# EAGLE library part IC_KSZ8851SNL (library dp_devices)
Fast Ethernet Controller with PHY, MAC and SPI
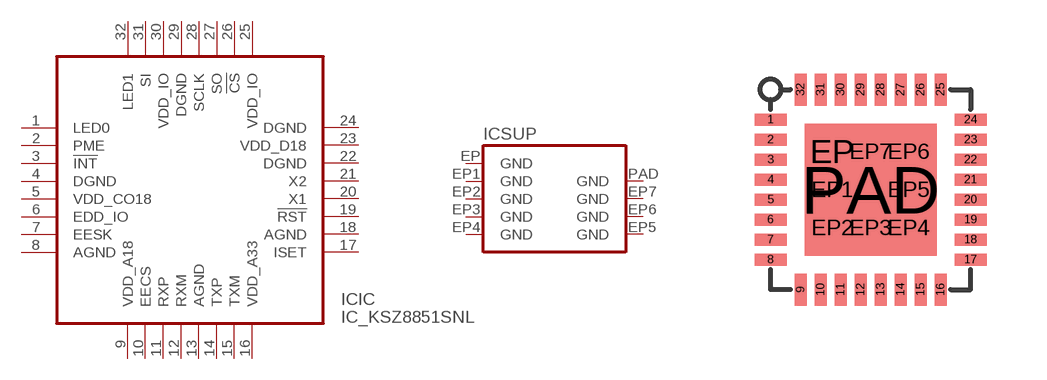
[diagram p104: symbol with the pads of QFN32_5X5; footprint QFN32_5X5]

Designator prefix IC; gates IC=IC_KSZ8851SNL SUP=QFN25_GND

## IC_KSZ8851SNL  [QFN32_5X5]
1  IC:LED0
2  IC:PME
3  IC:!INT
4  IC:DGND  sup
5  IC:VDD_CO18
6  IC:EDD_IO
7  IC:EESK
8  IC:AGND
9  IC:VDD_A18
10  IC:EECS
11  IC:RXP
12  IC:RXM
13  IC:AGND
14  IC:TXP
15  IC:TXM
16  IC:VDD_A33
17  IC:ISET
18  IC:AGND  sup
19  IC:!RST
20  IC:X1
21  IC:X2
22  IC:DGND
23  IC:VDD_D18  sup
24  IC:DGND
25  IC:VDD_IO
26  IC:!CS
27  IC:SO
28  IC:SCLK
29  IC:DGND
30  IC:VDD_IO
31  IC:SI
32  IC:LED1
EP  SUP:GND  sup
EP1  SUP:GND  sup
EP2  SUP:GND  sup
EP3  SUP:GND  sup
EP4  SUP:GND  sup
EP5  SUP:GND  sup
EP6  SUP:GND  sup
EP7  SUP:GND  sup
PAD  SUP:GND  sup

## Footprint QFN32_5X5 (pad centres in mm)
smd 0.8 x 0.3: 1 -2.5,1.75; 2 -2.5,1.25; 3 -2.5,0.75; 4 -2.5,0.25; 5 -2.5,-0.25; 6 -2.5,-0.75; 7 -2.5,-1.25; 8 -2.5,-1.75; 17 2.5,-1.75; 18 2.5,-1.25; 19 2.5,-0.75; 20 2.5,-0.25; 21 2.5,0.25; 22 2.5,0.75; 23 2.5,1.25; 24 2.5,1.75
smd 0.3 x 0.8: 9 -1.75,-2.5; 10 -1.25,-2.5; 11 -0.75,-2.5; 12 -0.25,-2.5; 13 0.25,-2.5; 14 0.75,-2.5; 15 1.25,-2.5; 16 1.75,-2.5; 25 1.75,2.5; 26 1.25,2.5; 27 0.75,2.5; 28 0.25,2.5; 29 -0.25,2.5; 30 -0.75,2.5; 31 -1.25,2.5; 32 -1.75,2.5
drill 0.381: EP -0.953,0.953; EP1 -0.953,0; EP2 -0.953,-0.953; EP3 0,-0.953; EP4 0.953,-0.953; EP5 0.953,0; EP6 0.953,0.953; EP7 0,0.953
smd 3.3 x 3.3: PAD 0,0